# Altium footprint library djahng.PcbLib: 58 footprints (part 1 of 4)
Each footprint in its own frame and in the unit in brackets; x right, y up, seen from the top. Pads: shape width x height; smd on the part's side, far side on the other; paste and mask are expansions set on the pad; w line width, h text height; cw(c..) or ccw(c..) is an arc to the next point about the centre after c.
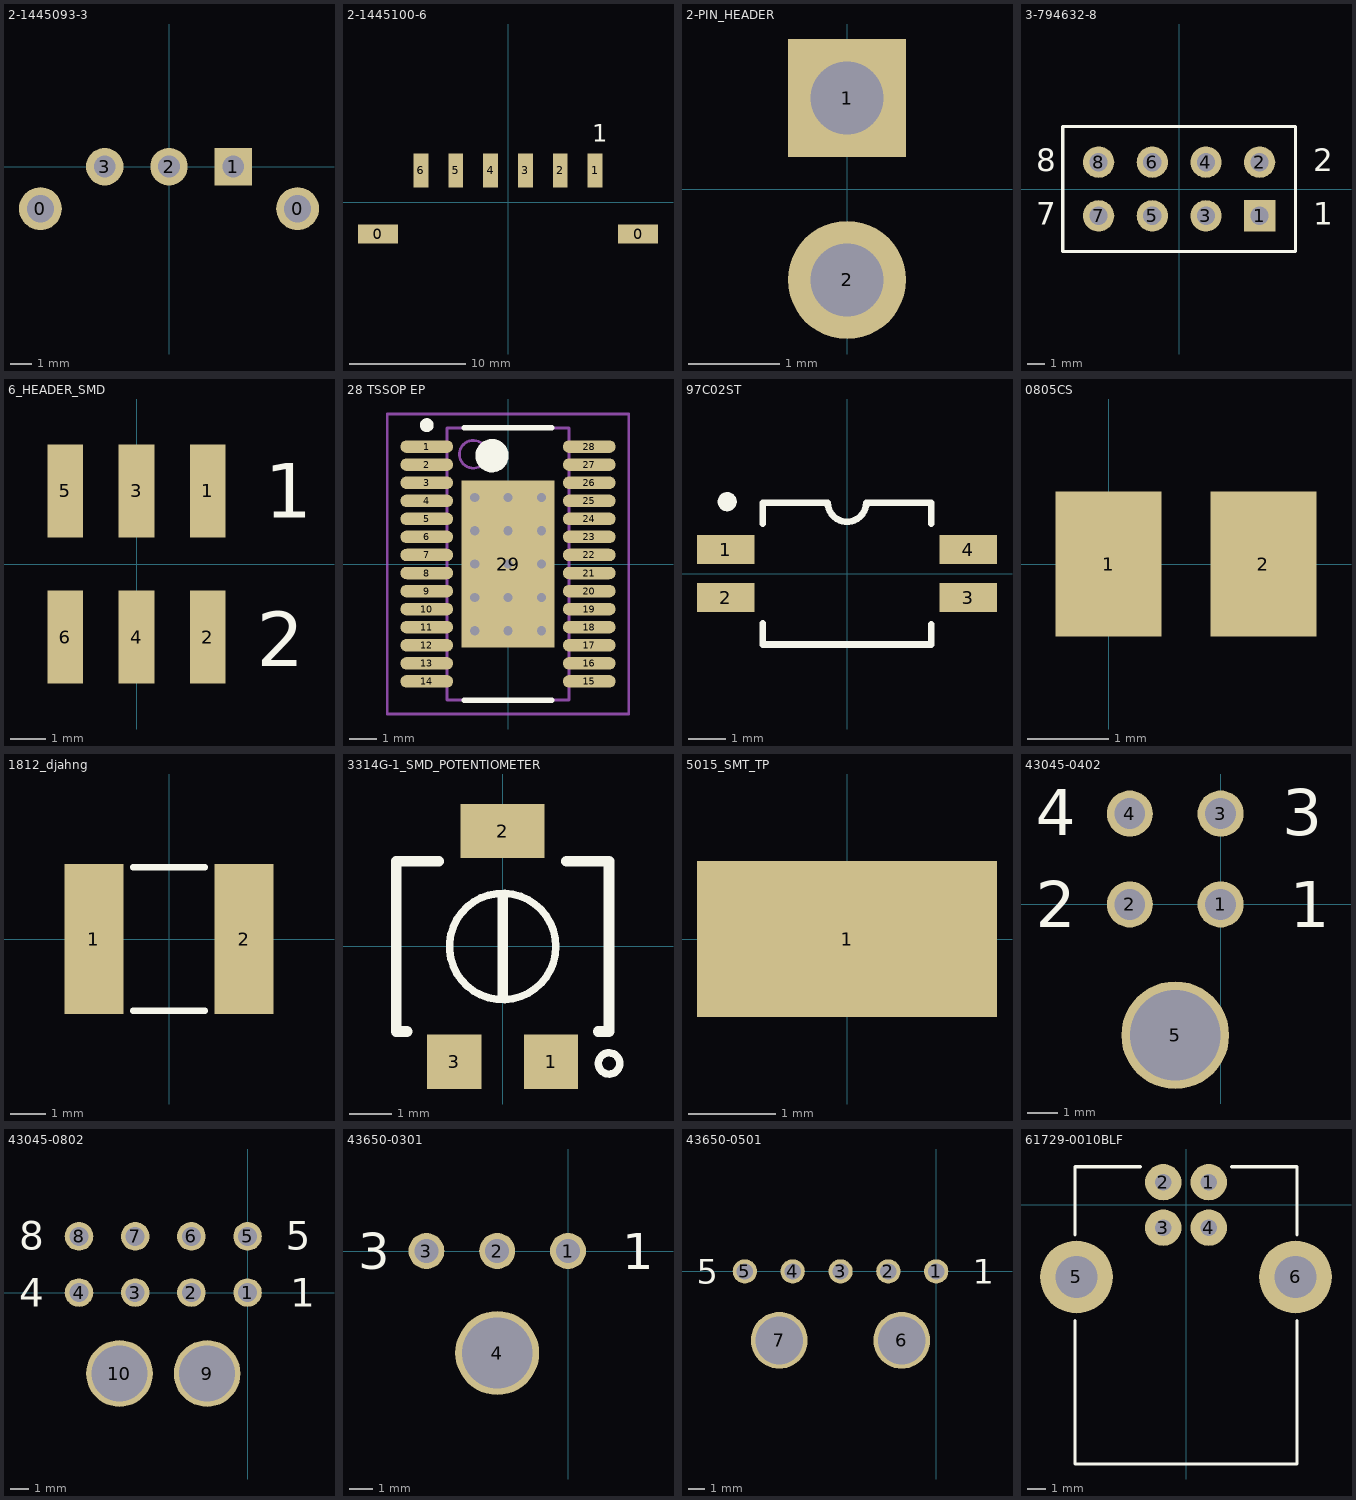
[diagram p0: the footprints below, top view; thin cyan lines are the x and y axes]

## 2-1445093-3 [mm] "Tyco Electronics 2-1445093-3, single row thru hole header, 3 pos"
height 9.246
pads (5):
  round 2 hole 1.27: 0(-6,-1.96) 0(6,-1.96)
  rect 1.75x1.75 hole 1.02: 1(3,0)
  round 1.75 hole 1.02: 2(0,0) 3(-3,0)

## 2-1445100-6 [mil] "Tyco/Amp R/A 6 position header, SMD"
height 203
pads (8):
  rect 135x65 smd: 0(-441,-108) 0(441,-108)
  rect 50x115 smd: 1(295,108) 2(177,108) 3(59,108) 4(-59,108) 5(-177,108) 6(-295,108)
Top Overlay:
  text "1" at 285,205 h60

## 2-PIN_HEADER [mm] "0.8mm dia hole"
pads (2):
  rect 1.3x1.3 hole 0.8: 1(0,1)
  round 1.3 hole 0.8: 2(0,-1)

## 3-794632-8 [mm] "Tyco Electronics 3-794632-8, 8 pos thru hole vertical header"
height 9.246
pads (8):
  rect 1.75x1.75 hole 1.02: 1(4.5,-1.5)
  round 1.75 hole 1.02: 2(4.5,1.5) 3(1.5,-1.5) 4(1.5,1.5) 5(-1.5,-1.5) 6(-1.5,1.5) 7(-4.5,-1.5) 8(-4.5,1.5)
Top Overlay:
  lines w0.178: -6.5,-3.5 6.5,-3.5 6.5,3.5 -6.5,3.5 -6.5,-3.5
  text "1" at 7.5,-2 h1.27
  text "2" at 7.5,1 h1.27
  text "7" at -8,-2 h1.27
  text "8" at -8,1 h1.27

## 6_HEADER_SMD [mm] "FCI 57202-G52-03LF - 6 pin header, surface mount"
height 6.5
pads (6):
  rect 1x2.6 smd: 1(2,2.05) 2(2,-2.05) 3(0,2.05) 4(0,-2.05) 5(-2,2.05) 6(-2,-2.05)
Top Overlay:
  text "1" at 3.6,1.3 h1.52
  text "2" at 3.375,-2.875 h1.52

## 28 TSSOP EP [mm] "TSSOP EP, 28-Leads, Exposed Paddle,  Body 9.8x4.4mm (max), Pitch 0.65mm, IPC Low Density"
height 1.1
pads (29):
  oval 1.9x0.45 smd: 1(-2.925,4.225) 2(-2.925,3.575) 3(-2.925,2.925) 4(-2.925,2.275) 5(-2.925,1.625) 6(-2.925,0.975) 7(-2.925,0.325) 8(-2.925,-0.325) 9(-2.925,-0.975) 10(-2.925,-1.625) 11(-2.925,-2.275) 12(-2.925,-2.925) 13(-2.925,-3.575) 14(-2.925,-4.225) 15(2.925,-4.225) 16(2.925,-3.575) 17(2.925,-2.925) 18(2.925,-2.275) 19(2.925,-1.625) 20(2.925,-0.975) 21(2.925,-0.325) 22(2.925,0.325) 23(2.925,0.975) 24(2.925,1.625) 25(2.925,2.275) 26(2.925,2.925) 27(2.925,3.575) 28(2.925,4.225)
  rect 3.35x6 smd: 29(0,0)
via 1.2,-2.4 diameter 0.66 hole 0.33
via 0,-2.4 diameter 0.66 hole 0.33
via -1.2,-2.4 diameter 0.66 hole 0.33
via 1.2,-1.2 diameter 0.66 hole 0.33
via 0,-1.2 diameter 0.66 hole 0.33
via -1.2,-1.2 diameter 0.66 hole 0.33
via 1.2,0 diameter 0.66 hole 0.33
via 0,0 diameter 0.66 hole 0.33
via -1.2,0 diameter 0.66 hole 0.33
via 1.2,1.2 diameter 0.66 hole 0.33
via 0,1.2 diameter 0.66 hole 0.33
via -1.2,1.2 diameter 0.66 hole 0.33
via 1.2,2.4 diameter 0.66 hole 0.33
via 0,2.4 diameter 0.66 hole 0.33
via -1.2,2.4 diameter 0.66 hole 0.33
Top Overlay:
  circle w0.6: c-0.575,3.9 r0.3
  circle w0.25: c-2.925,5 r0.125
  lines w0.2: -1.575,-4.9 1.575,-4.9 ; -1.575,4.9 1.575,4.9
Mechanical 13:
  circle w0.1: c-1.25,3.95 r0.5
  lines w0.1: -2.2,-4.9 2.2,-4.9 2.2,4.9 -2.2,4.9 -2.2,-4.9
Mechanical 15:
  lines w0.1: -0.5,0 0.5,0 ; 0,-0.5 0,0.5 ; -4.35,-5.4 4.35,-5.4 4.35,5.4 -4.35,5.4 -4.35,-5.4
3D body: height 1.1, standoff 0, extent -2.2,-4.9 2.2,4.9

## 97C02ST [mil] "Grayhill 97C02ST, 2 SPST switch, surface mount"
height 59
pads (4):
  rect 60x30 smd: 1(-126.5,25) 2(-126.5,-25) 3(126.5,-25) 4(126.5,25)
Top Overlay:
  circle w10: c-125,75 r5
  lines w7: -88,-52 -88,-74 88,-74 88,-57 88,-53 ; -88,52 -88,74 -20,74 ccw(c0,74) 20,74 88,74 88,52

## 0805CS [mm] "Coilcraft 0805CS Chip Inductor"
pads (2):
  rect 1.3x1.778 smd: 1(0,0) 2(1.9,0)

## 1812_djahng [mil] "1812 Footprint"
height 91
pads (2):
  rect 65.5x166 smd: 1(-83.25,0) 2(83.25,0)
Top Overlay:
  lines w7: -40,-79.5 40,-79.5 ; -40,79.5 40,79.5

## 3314G-1_SMD_POTENTIOMETER [mil] "Trimpot (Potentiometer), 4mm square, SMD"
height 100
pads (3):
  rect 51x51 smd: 1(45.5,-108.5) 3(-45.5,-108.5)
  rect 79x51 smd: 2(0,108.5)
Top Overlay:
  circle w7.01: c100,-110 r10
  circle w7.01: c0,0 r50
  lines w10: -90,-80 -100,-80 -100,80 -60,80 ; 0,-45 0,45 ; 60,80 100,80 100,-80 90,-80

## 5015_SMT_TP [mil] "SMT Test Point, Keystone #5015"
height 60
pads (1):
  rect 135x70 smd: 1(0,0)

## 43045-0402 [mil] "Molex right angle header, 4 position"
pads (5):
  round 60 hole 40: 1(0,0) 2(-118,0) 3(0,118) 4(-118,118)
  round 140 hole 118: 5(-59,-170)
Top Overlay:
  text "4" at -240,90 h60
  text "3" at 80,90 h60
  text "2" at -240,-30 h60
  text "1" at 90,-30 h60

## 43045-0802 [mil] "Molex right angle header, 8 position"
pads (10):
  round 60 hole 40: 1(0,0) 2(-118,0) 3(-236,0) 4(-354,0) 5(0,118) 6(-118,118) 7(-236,118) 8(-354,118)
  round 140 hole 118: 9(-85,-170) 10(-269,-170)
Top Overlay:
  text "8" at -480,90 h60
  text "4" at -480,-30 h60
  text "5" at 80,90 h60
  text "1" at 90,-30 h60

## 43650-0301 [mil]
pads (4):
  round 60 hole 40: 1(0,0) 2(-118,0) 3(-236,0)
  round 140 hole 118: 4(-118,-170)
Top Overlay:
  text "3" at -350,-30 h60
  text "1" at 90,-30 h60

## 43650-0501 [mil]
pads (7):
  round 60 hole 40: 1(0,0) 2(-118,0) 3(-236,0) 4(-354,0) 5(-472,0)
  round 140 hole 118: 6(-85,-170) 7(-387,-170)
Top Overlay:
  text "1" at 90,-30 h60
  text "5" at -590,-30 h60

## 61729-0010BLF [mm] "FCI 61729-0010BLF, USB Type B Right Angle Connector"
height 10.998
pads (6):
  round 2 hole 0.92: 1(1.25,1.25) 2(-1.25,1.25) 3(-1.25,-1.25) 4(1.25,-1.25)
  round 4 hole 2.3: 5(-6.02,-3.96) 6(6.02,-3.96)
Top Overlay:
  lines w0.178: -6.1,-6.35 -6.1,-14.24 6.1,-14.24 6.1,-6.35 ; -6.1,-1.65 -6.1,2.1 -2.5,2.1 ; 2.5,2.1 6.1,2.1 6.1,-1.65